# Altium schematic symbol library Tu dien.SchLib: 230 symbols
Pins are listed as number, name and electrical type; pins without a type are passive.

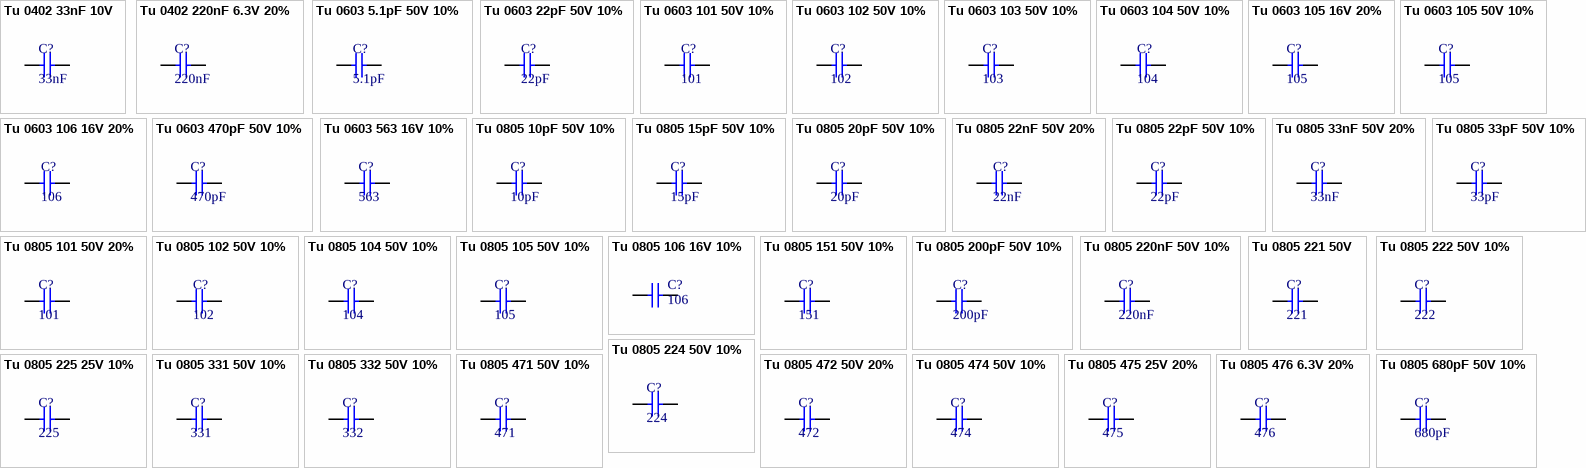
[diagram p0: symbols Tu 0402 33nF 10V to Tu 0805 680pF 50V 10%]

## Tu 0402 33nF 10V
designator C?, comment 33nF
Dán; Don_Vi: Con; So_Chan: 2; Ten_Linh_Kien: Tụ 0402 33nF X7R 10V GRM155R71A333KA01D; Ma_Hang: MH007853; Chung_Loai: Dán; Kieu_Chan: *
footprint tu 0402
pins: 1, 2

## Tu 0402 220nF 6.3V 20%
designator C?, comment 220nF
Dán; Don_Vi: Con; So_Chan: 2; Ten_Linh_Kien: Tụ 0402 220nF 6.3V 20%; Ma_Hang: MH008102; Chung_Loai: Dán; Kieu_Chan: *
footprint tu 0402
pins: 1, 2

## Tu 0603 5.1pF 50V 10%
designator C?, comment 5.1pF
Dán; Don_Vi: Con; So_Chan: 2; Ten_Linh_Kien: Tụ 0603 5.1P 50V 10%; Ma_Hang: MH004572; Chung_Loai: Dán; Kieu_Chan: *
footprint tu 0603 (Chip Capacitor, 2-Leads, Body 1,60x0,80mm, IPC Medium Density)
pins: 1, 2

## Tu 0603 22pF 50V 10%
designator C?, comment 22pF
Dán; Don_Vi: Con; So_Chan: 2; Ten_Linh_Kien: Tụ 0603 22pF 50V 10%; Ma_Hang: MH004570; Chung_Loai: Dán; Kieu_Chan: *
footprint tu 0603 (Chip Capacitor, 2-Leads, Body 1,60x0,80mm, IPC Medium Density)
pins: 1, 2

## Tu 0603 101 50V 10%
designator C?, comment 101
Dán; Don_Vi: Con; So_Chan: 2; Ten_Linh_Kien: Tụ 0603 101-0.1nF 10% 50V; Ma_Hang: MH004565; Chung_Loai: Dán; Kieu_Chan: *
footprint tu 0603 (Chip Capacitor, 2-Leads, Body 1,60x0,80mm, IPC Medium Density)
pins: 1, 2

## Tu 0603 102 50V 10%
designator C?, comment 102
Dán; Don_Vi: Con; So_Chan: 2; Ten_Linh_Kien: Tụ 0603 102-1nF 10% 50V; Ma_Hang: MH004566; Chung_Loai: Dán; Kieu_Chan: *
footprint tu 0603 (Chip Capacitor, 2-Leads, Body 1,60x0,80mm, IPC Medium Density)
pins: 1, 2

## Tu 0603 103 50V 10%
designator C?, comment 103
Dán; Don_Vi: Con; So_Chan: 2; Ten_Linh_Kien: Tụ 0603 103-10nF 10% 50V; Ma_Hang: MH004567; Chung_Loai: Dán; Kieu_Chan: *
footprint tu 0603 (Chip Capacitor, 2-Leads, Body 1,60x0,80mm, IPC Medium Density)
pins: 1, 2

## Tu 0603 104 50V 10%
designator C?, comment 104
Dán; Don_Vi: Con; So_Chan: 2; Ten_Linh_Kien: Tụ 0603 104-100nF 10% 50V; Ma_Hang: MH004568; Chung_Loai: Dán; Kieu_Chan: *
footprint tu 0603 (Chip Capacitor, 2-Leads, Body 1,60x0,80mm, IPC Medium Density)
pins: 1, 2

## Tu 0603 105 16V 20%
designator C?, comment 105
Dán; Don_Vi: Con; So_Chan: 2; Ten_Linh_Kien: Tụ 0603 105-1uF 20% 16V; Ma_Hang: MH004574; Chung_Loai: Dán; Kieu_Chan: *
footprint tu 0603 (Chip Capacitor, 2-Leads, Body 1,60x0,80mm, IPC Medium Density)
pins: 1, 2

## Tu 0603 105 50V 10%
designator C?, comment 105
Dán; Don_Vi: Con; So_Chan: 2; Ten_Linh_Kien: Tụ 0603 105-1uF 50V 10%; Ma_Hang: MH004569; Chung_Loai: Dán; Kieu_Chan: *
footprint tu 0603 (Chip Capacitor, 2-Leads, Body 1,60x0,80mm, IPC Medium Density)
pins: 1, 2

## Tu 0603 106 16V 20%
designator C?, comment 106
Dán; Don_Vi: Con; So_Chan: 2; Ten_Linh_Kien: Tụ 0603-10uF 20% 16V; Ma_Hang: MH004848; Chung_Loai: Dán; Kieu_Chan: *
footprint tu 0603 (Chip Capacitor, 2-Leads, Body 1,60x0,80mm, IPC Medium Density)
pins: 1, 2

## Tu 0603 470pF 50V 10%
designator C?, comment 470pF
Dán; Don_Vi: Con; So_Chan: 2; Ten_Linh_Kien: Tụ 0603 470P 50V 10%; Ma_Hang: MH004571; Chung_Loai: Dán; Kieu_Chan: *
footprint tu 0603 (Chip Capacitor, 2-Leads, Body 1,60x0,80mm, IPC Medium Density)
pins: 1, 2

## Tu 0603 563 16V 10%
designator C?, comment 563
Dán; Don_Vi: Con; So_Chan: 2; Ten_Linh_Kien: Tụ 0603 563-56nF 10% 16V; Ma_Hang: MH004573; Chung_Loai: Dán; Kieu_Chan: *
footprint tu 0603 (Chip Capacitor, 2-Leads, Body 1,60x0,80mm, IPC Medium Density)
pins: 1, 2

## Tu 0805 10pF 50V 10%
designator C?, comment 10pF
Dán; Don_Vi: Con; So_Chan: 2; Ten_Linh_Kien: Tụ 0805 10P 10% 50V; Ma_Hang: MH004554; Chung_Loai: Dán; Kieu_Chan: *
footprint tu 0805 (Compoment SMD 80x50mil)
pins: 1, 2

## Tu 0805 15pF 50V 10%
designator C?, comment 15pF
Dán; Don_Vi: Con; So_Chan: 2; Ten_Linh_Kien: Tụ 0805 15P 10% 50V; Ma_Hang: MH004556; Chung_Loai: Dán; Kieu_Chan: *
footprint tu 0805 (Compoment SMD 80x50mil)
pins: 1, 2

## Tu 0805 20pF 50V 10%
designator C?, comment 20pF
Dán; Don_Vi: Con; Ten_Linh_Kien: Tụ 0805 20P 10% 50V; So_Chan: 2; Ma_Hang: MH004558; Chung_Loai: Dán; Kieu_Chan: *
footprint tu 0805 (Compoment SMD 80x50mil)
pins: 1, 2

## Tu 0805 22nF 50V 20%
designator C?, comment 22nF
Dán; Don_Vi: Con; So_Chan: 2; Ten_Linh_Kien: Tụ 0805 22nF 50V 20%; Ma_Hang: MH007857; Chung_Loai: Dán; Kieu_Chan: *
footprint tu 0805 (Compoment SMD 80x50mil)
pins: 1, 2

## Tu 0805 22pF 50V 10%
designator C?, comment 22pF
Dán; Don_Vi: Con; So_Chan: 2; Ten_Linh_Kien: Tụ 0805 22P 10% 50V; Ma_Hang: MH004560; Chung_Loai: Dán; Kieu_Chan: *
footprint tu 0805 (Compoment SMD 80x50mil)
pins: 1, 2

## Tu 0805 33nF 50V 20%
designator C?, comment 33nF
Dán; Don_Vi: Con; So_Chan: 2; Ten_Linh_Kien: Tụ 0805 33nF 50V 20%; Ma_Hang: MH007854; Kieu_Chan: *; Chung_Loai: Dán
footprint tu 0805 (Compoment SMD 80x50mil)
pins: 1, 2

## Tu 0805 33pF 50V 10%
designator C?, comment 33pF
Dán; Don_Vi: Con; So_Chan: 2; Ten_Linh_Kien: Tụ 0805 33p 10% 50V; Ma_Hang: MH004563; Chung_Loai: Dán; Kieu_Chan: *
footprint tu 0805 (Compoment SMD 80x50mil)
pins: 1, 2

## Tu 0805 101 50V 20%
designator C?, comment 101
Dán; Don_Vi: Con; So_Chan: 2; Ten_Linh_Kien: Tụ 0805 101-0.1nF 50V 20%; Ma_Hang: MH002806; Chung_Loai: Dán; Kieu_Chan: *
footprint tu 0805 (Compoment SMD 80x50mil)
pins: 1, 2

## Tu 0805 102 50V 10%
designator C?, comment 102
Dán; Don_Vi: Con; So_Chan: 2; Ten_Linh_Kien: Tụ 0805 102-1nF 10% 50V; Ma_Hang: MH004549; Chung_Loai: Dán; Kieu_Chan: *
footprint tu 0805 (Compoment SMD 80x50mil)
pins: 1, 2

## Tu 0805 104 50V 10%
designator C?, comment 104
Dán; Don_Vi: Con; So_Chan: 2; Ten_Linh_Kien: Tụ 0805 104-100nF 10% 50V; Ma_Hang: MH004551; Chung_Loai: Dán; Kieu_Chan: *
footprint tu 0805 (Compoment SMD 80x50mil)
pins: 1, 2

## Tu 0805 105 50V 10%
designator C?, comment 105
Dán; Don_Vi: Con; So_Chan: 2; Ten_Linh_Kien: Tụ 0805 105-1uF 10% 50V; Ma_Hang: MH004552; Chung_Loai: Dán; Kieu_Chan: *
footprint tu 0805 (Compoment SMD 80x50mil)
pins: 1, 2

## Tu 0805 106 16V 10%
designator C?, comment 106
Dán; Ten_Linh_Kien: Tụ 0805 106-10uF 10% 16V; So_Chan: 2; Don_Vi: Con; Ma_Hang: MH004553; Chung_Loai: Dán; Kieu_Chan: *
footprint tu 0805 (Compoment SMD 80x50mil)
pins: 1, 2

## Tu 0805 151 50V 10%
designator C?, comment 151
Dán; Don_Vi: Con; So_Chan: 2; Ten_Linh_Kien: Tụ 0805 151-150P 10% 50V; Ma_Hang: MH004555; Chung_Loai: Dán; Kieu_Chan: *
footprint tu 0805 (Compoment SMD 80x50mil)
pins: 1, 2

## Tu 0805 200pF 50V 10%
designator C?, comment 200pF
Dán; Ten_Linh_Kien: Tụ 0805 200p 10% 50V; Don_Vi: Con; So_Chan: 2; Ma_Hang: MH008100; Chung_Loai: Dán; Kieu_Chan: *
footprint Tu 0805 (Compoment SMD 80x50mil)
pins: 1, 2

## Tu 0805 220nF 50V 10%
designator C?, comment 220nF
Dán; Don_Vi: Con; So_Chan: 2; Ten_Linh_Kien: Tụ 0805 220nF 50V 10%; Ma_Hang: MH008099; Chung_Loai: Dán; Kieu_Chan: *
footprint tu 0805 (Compoment SMD 80x50mil)
pins: 1, 2

## Tu 0805 221 50V
designator C?, comment 221
Dán; Don_Vi: Con; So_Chan: 2; Ten_Linh_Kien: Tụ 0805 221-220P 50V; Ma_Hang: MH007365; Chung_Loai: Dán; Kieu_Chan: *
footprint tu 0805 (Compoment SMD 80x50mil)
pins: 1, 2

## Tu 0805 222 50V 10%
designator C?, comment 222
Dán; Don_Vi: Con; So_Chan: 2; Ten_Linh_Kien: Tụ 0805 222-2.2nF 10% 50V; Ma_Hang: MH004557; Chung_Loai: Dán; Kieu_Chan: *
footprint tu 0805 (Compoment SMD 80x50mil)
pins: 1, 2

## Tu 0805 224 50V 10%
designator C?, comment 224
Dán; Don_Vi: Con; So_Chan: 2; Ten_Linh_Kien: Tụ 0805 224-0.22uF 10% 50V; Ma_Hang: MH004559; Chung_Loai: Dán; Kieu_Chan: *
footprint tu 0805 (Compoment SMD 80x50mil)
pins: 1, 2

## Tu 0805 225 25V 10%
designator C?, comment 225
Dán; Don_Vi: Con; So_Chan: 2; Ten_Linh_Kien: Tụ 0805 225-2.2uF 25V 10%; Ma_Hang: MH007483; Chung_Loai: Dán; Kieu_Chan: *
footprint tu 0805 (Compoment SMD 80x50mil)
pins: 1, 2

## Tu 0805 331 50V 10%
designator C?, comment 331
Dán; Don_Vi: Con; So_Chan: 2; Ten_Linh_Kien: Tụ 0805 331-330P 10% 50V; Ma_Hang: MH004562; Chung_Loai: Dán; Kieu_Chan: *
footprint tu 0805 (Compoment SMD 80x50mil)
pins: 1, 2

## Tu 0805 332 50V 10%
designator C?, comment 332
Dán; Don_Vi: Con; So_Chan: 2; Ten_Linh_Kien: Tụ 0805 332-3.3nF 10% 50V; Ma_Hang: MH004561; Chung_Loai: Dán; Kieu_Chan: *
footprint tu 0805 (Compoment SMD 80x50mil)
pins: 1, 2

## Tu 0805 471 50V 10%
designator C?, comment 471
Dán; Don_Vi: Con; So_Chan: 2; Ten_Linh_Kien: Tụ 0805 471-470 10% 50V; Ma_Hang: MH004564; Chung_Loai: Dán; Kieu_Chan: *
footprint tu 0805 (Compoment SMD 80x50mil)
pins: 1, 2

## Tu 0805 472 50V 20%
designator C?, comment 472
Dán; Don_Vi: Con; So_Chan: 2; Ten_Linh_Kien: Tụ 0805 472-4.7nF 20% 50V; Ma_Hang: MH004363; Chung_Loai: Dán; Kieu_Chan: *
footprint tu 0805 (Compoment SMD 80x50mil)
pins: 1, 2

## Tu 0805 474 50V 10%
designator C?, comment 474
Dán; Don_Vi: Con; So_Chan: 2; Ten_Linh_Kien: Tụ 0805 474-470nF 50V 10%; Ma_Hang: MH006116; Chung_Loai: Dán; Kieu_Chan: *
footprint tu 0805 (Compoment SMD 80x50mil)
pins: 1, 2

## Tu 0805 475 25V 20%
designator C?, comment 475
Dán; Don_Vi: Con; So_Chan: 2; Ten_Linh_Kien: Tụ 0805 475-4.7uF 20% 25V; Ma_Hang: MH004276; Chung_Loai: Dán; Kieu_Chan: *
footprint tu 0805 (Compoment SMD 80x50mil)
pins: 1, 2

## Tu 0805 476 6.3V 20%
designator C?, comment 476
Dán; Don_Vi: Con; So_Chan: 2; Ten_Linh_Kien: Tụ 0805 476-47uF 20% 6.3V; Ma_Hang: MH004277; Chung_Loai: Dán; Kieu_Chan: *
footprint tu 0805 (Compoment SMD 80x50mil)
pins: 1, 2

## Tu 0805 680pF 50V 10%
designator C?, comment 680pF
Dán; Don_Vi: Con; So_Chan: 2; Ten_Linh_Kien: Tụ 0805 680pF 50V 10%; Ma_Hang: MH008098; Chung_Loai: Dán; Kieu_Chan: *
footprint tu 0805 (Compoment SMD 80x50mil)
pins: 1, 2

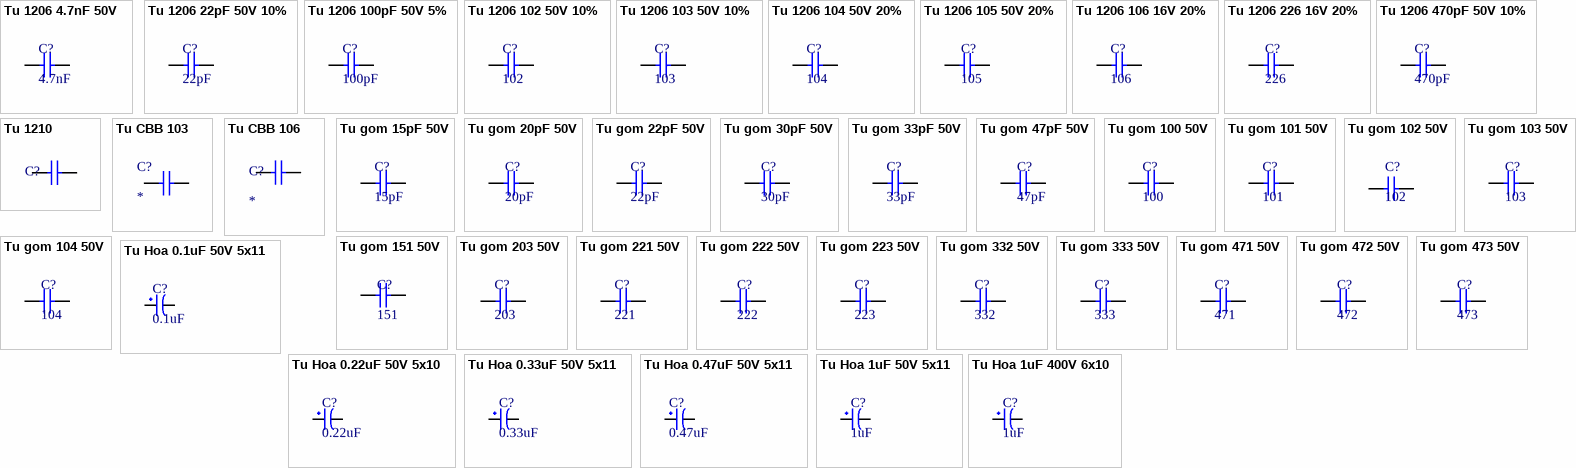
[diagram p1: symbols Tu 1206 4.7nF 50V to Tu Hoa 1uF 400V 6x10]

## Tu 1206 4.7nF 50V
designator C?, comment 4.7nF
Dán; Don_Vi: Con; So_Chan: 2; Ten_Linh_Kien: Tụ 1206 4.7nF 50V NPO; Ma_Hang: MH007538; Chung_Loai: Dán; Kieu_Chan: *
footprint tu 1206
pins: 1, 2

## Tu 1206 22pF 50V 10%
designator C?, comment 22pF
Dán; Ma_Hang: MH004547; Don_Vi: Con; So_Chan: 2; Ten_Linh_Kien: Tụ 1206 22P 10% 50V; Chung_Loai: Dán; Kieu_Chan: *
footprint tu 1206
pins: 1, 2

## Tu 1206 100pF 50V 5%
designator C?, comment 100pF
Dán; Don_Vi: Con; So_Chan: 2; Ten_Linh_Kien: Tụ 1206 100P 5% 50V; Ma_Hang: MH008101; Chung_Loai: Dán; Kieu_Chan: *
footprint tu 1206
pins: 1, 2

## Tu 1206 102 50V 10%
designator C?, comment 102
Dán; Don_Vi: Con; So_Chan: 2; Ten_Linh_Kien: Tụ 1206 102-1nF 10% 50V; Ma_Hang: MH004542; Chung_Loai: Dán; Kieu_Chan: *
footprint tu 1206
pins: 1, 2

## Tu 1206 103 50V 10%
designator C?, comment 103
Dán; Don_Vi: Con; So_Chan: 2; Ten_Linh_Kien: Tụ 1206 103-10nF 10% 50V; Ma_Hang: MH004543; Chung_Loai: Dán; Kieu_Chan: *
footprint tu 1206
pins: 1, 2

## Tu 1206 104 50V 20%
designator C?, comment 104
Dán; Don_Vi: Con; So_Chan: 2; Ten_Linh_Kien: Tụ 1206 104-0.1uF 20% 50V; Ma_Hang: MH004544; Chung_Loai: Dán; Kieu_Chan: *
footprint tu 1206
pins: 1, 2

## Tu 1206 105 50V 20%
designator C?, comment 105
Dán; Don_Vi: Con; So_Chan: 2; Ten_Linh_Kien: Tụ 1206 105-1uF 20% 50V; Ma_Hang: MH004545; Chung_Loai: Dán; Kieu_Chan: *
footprint tu 1206
pins: 1, 2

## Tu 1206 106 16V 20%
designator C?, comment 106
Dán; Don_Vi: Con; So_Chan: 2; Ten_Linh_Kien: Tụ 1206 106-10uF 20% 16V; Ma_Hang: MH004541; Chung_Loai: Dán; Kieu_Chan: *
footprint tu 1206
pins: 1, 2

## Tu 1206 226 16V 20%
designator C?, comment 226
Dán; Don_Vi: Con; So_Chan: 2; Ten_Linh_Kien: Tụ 1206 226-22uF 20% 16V; Ma_Hang: MH004546; Chung_Loai: Dán; Kieu_Chan: *
footprint tu 1206
pins: 1, 2

## Tu 1206 470pF 50V 10%
designator C?, comment 470pF
Dán; Don_Vi: Con; So_Chan: 2; Ten_Linh_Kien: Tụ 1206 470P 10% 50V; Ma_Hang: MH004548; Chung_Loai: Dán; Kieu_Chan: *
footprint tu 1206
pins: 1, 2

## Tu 1210
designator C?, comment 2.2uF  (value not drawn)
footprint TU 1210 10% 100V
pins: 1, 2

## Tu CBB 103
designator C?
pins: 1, 2

## Tu CBB 106
designator C?
footprint Tu CBB 105
pins: 1, 2

## Tu gom 15pF 50V
designator C?, comment 15pF
Cắm; Don_Vi: Con; So_Chan: 2; Ten_Linh_Kien: Tụ gốm 15P 50V; Ma_Hang: MH004767; Chung_Loai: Cắm; Kieu_Chan: *
footprint tu gom (Tu gom mini)
pins: 1, 2

## Tu gom 20pF 50V
designator C?, comment 20pF
Căm; Chung_Loai: Cắm; So_Chan: 2; Ten_Linh_Kien: Tụ gốm 20P 50V; Don_Vi: Con; Ma_Hang: MH004768; Kieu_Chan: *
footprint tu gom (Tu gom mini)
pins: 1, 2

## Tu gom 22pF 50V
designator C?, comment 22pF
Cắm; Don_Vi: Con; So_Chan: 2; Ten_Linh_Kien: Tụ gốm 22P 50V; Ma_Hang: MH004771; Chung_Loai: Cắm; Kieu_Chan: *
footprint tu gom (Tu gom mini)
pins: 1, 2

## Tu gom 30pF 50V
designator C?, comment 30pF
Cắm; Don_Vi: Con; So_Chan: 2; Ten_Linh_Kien: Tụ gốm 30P; Ma_Hang: MH004772; Chung_Loai: Cắm; Kieu_Chan: *
footprint tu gom (Tu gom mini)
pins: 1, 2

## Tu gom 33pF 50V
designator C?, comment 33pF
Cắm; Don_Vi: Con; So_Chan: 2; Ten_Linh_Kien: Tụ gốm 33P 50V; Ma_Hang: MH004775; Chung_Loai: Cắm; Kieu_Chan: *
footprint tu gom (Tu gom mini)
pins: 1, 2

## Tu gom 47pF 50V
designator C?, comment 47pF
Cắm; Don_Vi: Con; So_Chan: 2; Ten_Linh_Kien: Tụ gốm 47P 50V; Ma_Hang: MH004779; Chung_Loai: Cắm; Kieu_Chan: *
footprint tu gom (Tu gom mini)
pins: 1, 2

## Tu gom 100 50V
designator C?, comment 100
Cắm; Don_Vi: Con; So_Chan: 2; Ten_Linh_Kien: Tụ gốm 100 10pF 50V; Ma_Hang: MH004765; Chung_Loai: Cắm; Kieu_Chan: *
footprint tu gom (Tu gom mini)
pins: 1, 2

## Tu gom 101 50V
designator C?, comment 101
Cắm; Don_Vi: Con; So_Chan: 2; Ten_Linh_Kien: Tụ gốm 101 0.1nF 50V; Ma_Hang: MH004764; Chung_Loai: Cắm; Kieu_Chan: *
footprint tu gom (Tu gom mini)
pins: 1, 2

## Tu gom 102 50V
designator C?, comment 102
Cắm; Don_Vi: Con; So_Chan: 2; Ten_Linh_Kien: Tụ gốm 102 1nF 50V; Ma_Hang: MH004763; Chung_Loai: Cắm; Kieu_Chan: *
footprint tu gom (Tu gom mini)
pins: 1, 2

## Tu gom 103 50V
designator C?, comment 103
Cắm; So_Chan: 2; Ten_Linh_Kien: Tụ gốm 103 10nF 50V; Don_Vi: Con; Ma_Hang: MH000936; Chung_Loai: Cắm; Kieu_Chan: *
footprint tu gom (Tu gom mini)
pins: 1, 2

## Tu gom 104 50V
designator C?, comment 104
Cắm; So_Chan: 2; Ten_Linh_Kien: Tụ gốm 104 100nF 50V; Don_Vi: Con; Ma_Hang: MH004761; Chung_Loai: Cắm; Kieu_Chan: *
footprint tu gom (Tu gom mini)
pins: 1, 2

## Tu gom 151 50V
designator C?, comment 151
Cắm; So_Chan: 2; Don_Vi: Con; Ten_Linh_Kien: Tụ gốm 150P 151 50V; Ma_Hang: MH004766; Chung_Loai: Cắm; Kieu_Chan: *
footprint tu gom (Tu gom mini)
pins: 1, 2

## Tu gom 203 50V
designator C?, comment 203
Cắm; Don_Vi: Con; So_Chan: 2; Ten_Linh_Kien: Tụ gốm 203 -20nF 50V; Ma_Hang: MH007482; Chung_Loai: Cắm; Kieu_Chan: *
footprint tu gom (Tu gom mini)
pins: 1, 2

## Tu gom 221 50V
designator C?, comment 221
Cắm; Don_Vi: Con; So_Chan: 2; Ten_Linh_Kien: Tụ gốm 220P 221 50V; Ma_Hang: MH004769; Chung_Loai: Cắm; Kieu_Chan: *
footprint tu gom (Tu gom mini)
pins: 1, 2

## Tu gom 222 50V
designator C?, comment 222
Cắm; Don_Vi: Con; So_Chan: 2; Ten_Linh_Kien: Tụ gốm 222-2.2nF 50V; Ma_Hang: MH004770; Chung_Loai: Cắm; Kieu_Chan: *
footprint tu gom (Tu gom mini)
pins: 1, 2

## Tu gom 223 50V
designator C?, comment 223
Cắm; Don_Vi: Con; So_Chan: 2; Ten_Linh_Kien: Tụ gốm 223-22nF 50V; Ma_Hang: MH007018; Chung_Loai: Cắm; Kieu_Chan: *
footprint tu gom (Tu gom mini)
pins: 1, 2

## Tu gom 332 50V
designator C?, comment 332
Cắm; Don_Vi: Con; So_Chan: 2; Ten_Linh_Kien: Tụ gốm 332-3.3nF 50V; Ma_Hang: MH004773; Chung_Loai: Cắm; Kieu_Chan: *
footprint tu gom (Tu gom mini)
pins: 1, 2

## Tu gom 333 50V
designator C?, comment 333
Cắm; Don_Vi: Con; So_Chan: 2; Ten_Linh_Kien: Tụ gốm 333-33nF 50V; Ma_Hang: MH004774; Chung_Loai: Cắm; Kieu_Chan: *
footprint tu gom (Tu gom mini)
pins: 1, 2

## Tu gom 471 50V
designator C?, comment 471
Cắm; Don_Vi: Con; So_Chan: 2; Ten_Linh_Kien: Tụ gốm 470P 471 50V; Ma_Hang: MH004776; Chung_Loai: Cắm; Kieu_Chan: *
footprint tu gom (Tu gom mini)
pins: 1, 2

## Tu gom 472 50V
designator C?, comment 472
Cắm; Don_Vi: Con; So_Chan: 2; Ten_Linh_Kien: Tụ gốm 472-4.7nF 50V; Ma_Hang: MH004777; Chung_Loai: Cắm; Kieu_Chan: *
footprint tu gom (Tu gom mini)
pins: 1, 2

## Tu gom 473 50V
designator C?, comment 473
Cắm; Don_Vi: Con; So_Chan: 2; Ten_Linh_Kien: Tụ gốm 473-0.047uF 50V; Ma_Hang: MH004778; Chung_Loai: Cắm; Kieu_Chan: *
footprint tu gom (Tu gom mini)
pins: 1, 2

## Tu Hoa 0.1uF 50V 5x11
designator C?, comment 0.1uF
Cắm; Don_Vi: Con; So_Chan: 2; Ten_Linh_Kien: Tụ Hóa 0.1uF 50V; Ma_Hang: MH006853; Chung_Loai: Cắm; Kieu_Chan: *
footprint tu hoa 5mm
pins: 1, 2

## Tu Hoa 0.22uF 50V 5x10
designator C?, comment 0.22uF
Cắm; Don_Vi: Con; So_Chan: 2; Ten_Linh_Kien: Tụ Hóa 0.22uF 50V; Ma_Hang: MH006854; Chung_Loai: Cắm; Kieu_Chan: *
footprint tu hoa 5mm
pins: 1, 2

## Tu Hoa 0.33uF 50V 5x11
designator C?, comment 0.33uF
Cắm; Don_Vi: Con; So_Chan: 2; Ten_Linh_Kien: Tụ Hóa 0.33uF 50V 5x11MM; Ma_Hang: MH004655; Chung_Loai: Cắm; Kieu_Chan: *
footprint tu hoa 5mm
pins: 1, 2

## Tu Hoa 0.47uF 50V 5x11
designator C?, comment 0.47uF
Cắm; Don_Vi: Con; So_Chan: 2; Ten_Linh_Kien: Tụ Hóa 0.47uF50V 5x11MM; Ma_Hang: MH006969; Chung_Loai: Cắm; Kieu_Chan: *
footprint tu hoa 5mm
pins: 1, 2

## Tu Hoa 1uF 50V 5x11
designator C?, comment 1uF
Cắm; Don_Vi: Con; So_Chan: 2; Ten_Linh_Kien: Tụ Hóa 1uF 50V 5x11MM; Ma_Hang: MH001355; Chung_Loai: Cắm; Kieu_Chan: *
footprint tu hoa 5mm
pins: 1, 2

## Tu Hoa 1uF 400V 6x10
designator C?, comment 1uF
Cắm; Don_Vi: Con; So_Chan: 2; Ten_Linh_Kien: Tụ Hóa 1uF 400V 6x10MM; Ma_Hang: MH003742; Chung_Loai: Cắm; Kieu_Chan: *
footprint tu hoa 5mm
pins: 1, 2

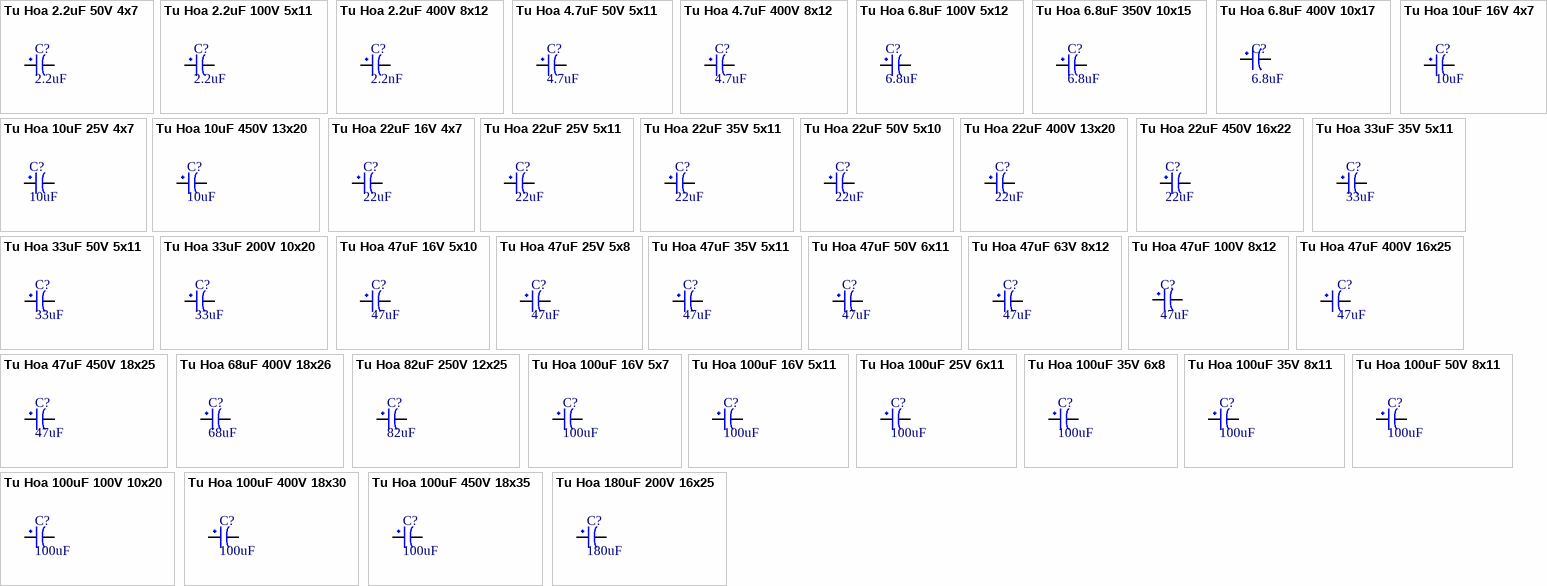
[diagram p2: symbols Tu Hoa 2.2uF 50V 4x7 to Tu Hoa 180uF 200V 16x25]

## Tu Hoa 2.2uF 50V 4x7
designator C?, comment 2.2uF
Cắm; Ten_Linh_Kien: Tụ Hóa 2.2uF 50V 4x7MM; Don_Vi: Con; So_Chan: 2; Ma_Hang: MH001356; Chung_Loai: Cắm; Kieu_Chan: *
footprint tu hoa 4mm
pins: 1, 2

## Tu Hoa 2.2uF 100V 5x11
designator C?, comment 2.2uF
Cắm; Don_Vi: Con; So_Chan: 2; Ten_Linh_Kien: Tụ Hóa 2.2uF 100V; Ma_Hang: MH005081; Chung_Loai: Cắm; Kieu_Chan: *
footprint tu hoa 5mm
pins: 1, 2

## Tu Hoa 2.2uF 400V 8x12
designator C?, comment 2.2nF
Cắm; Don_Vi: Con; So_Chan: 2; Ten_Linh_Kien: Tụ Hóa 2.2uF 400V 8x12MM; Ma_Hang: MH003743; Chung_Loai: Cắm; Kieu_Chan: *
footprint tu hoa 8mm
pins: 1, 2

## Tu Hoa 4.7uF 50V 5x11
designator C?, comment 4.7uF
Cắm; Don_Vi: Con; So_Chan: 2; Ten_Linh_Kien: Tụ Hóa 4.7uF 50V 5x11MM; Ma_Hang: MH001357; Chung_Loai: Cắm; Kieu_Chan: *
footprint tu hoa 5mm
pins: 1, 2

## Tu Hoa 4.7uF 400V 8x12
designator C?, comment 4.7uF
Cắm; Don_Vi: Con; So_Chan: 2; Ten_Linh_Kien: Tụ Hóa 4.7uF 400V 8x12MM; Ma_Hang: MH003744; Chung_Loai: Cắm; Kieu_Chan: *
footprint tu hoa 8mm
pins: 1, 2

## Tu Hoa 6.8uF 100V 5x12
designator C?, comment 6.8uF
Cắm; Don_Vi: Con; So_Chan: 2; Ten_Linh_Kien: Tụ Hóa 6.8uF 100V 5x12MM; Ma_Hang: MH006564; Chung_Loai: Cắm; Kieu_Chan: *
footprint tu hoa 5mm
pins: 1, 2

## Tu Hoa 6.8uF 350V 10x15
designator C?, comment 6.8uF
Cắm; So_Chan: 2; Don_Vi: Con; Ten_Linh_Kien: Tụ Hóa 6.8uF 350V 10x15MM; Ma_Hang: MH004800; Chung_Loai: Cắm; Kieu_Chan: *
footprint tu hoa 10mm
pins: 1, 2

## Tu Hoa 6.8uF 400V 10x17
designator C?, comment 6.8uF
Cắm; Don_Vi: Con; So_Chan: 2; Ten_Linh_Kien: Tụ Hóa 6.8uF 400V 10x17MM; Ma_Hang: MH003745; Chung_Loai: Cắm; Kieu_Chan: *
footprint tu hoa 10mm
pins: 1, 2

## Tu Hoa 10uF 16V 4x7
designator C?, comment 10uF
Cắm; So_Chan: 2; Don_Vi: Con; Ten_Linh_Kien: Tụ Hóa 10uF 16V; Ma_Hang: MH006855; Chung_Loai: Cắm; Kieu_Chan: *
footprint tu hoa 4mm
pins: 1, 2

## Tu Hoa 10uF 25V 4x7
designator C?, comment 10uF
Cắm; So_Chan: 2; Ten_Linh_Kien: Tụ Hóa 10uF 25V 4x7MM; Don_Vi: Con; Ma_Hang: MH001349; Chung_Loai: Cắm; Kieu_Chan: *
footprint tu hoa 4mm
pins: 1, 2

## Tu Hoa 10uF 450V 13x20
designator C?, comment 10uF
Cắm; Don_Vi: Con; So_Chan: 2; Ten_Linh_Kien: Tụ Hóa 10uF 450V 13x20MM; Ma_Hang: MH003950; Chung_Loai: Cắm; Kieu_Chan: *
footprint tu hoa 13mm
pins: 1, 2

## Tu Hoa 22uF 16V 4x7
designator C?, comment 22uF
Cắm; Don_Vi: Con; So_Chan: 2; Ten_Linh_Kien: Tụ Hóa 22uF 16V; Ma_Hang: MH006857; Chung_Loai: Cắm; Kieu_Chan: *
footprint tu hoa 4mm
pins: 1, 2

## Tu Hoa 22uF 25V 5x11
designator C?, comment 22uF
Cắm; So_Chan: 2; Don_Vi: Con; Ten_Linh_Kien: Tụ Hóa 22uF 25V; Ma_Hang: MH006858; Chung_Loai: Cắm; Kieu_Chan: *
footprint tu hoa 5mm
pins: 1, 2

## Tu Hoa 22uF 35V 5x11
designator C?, comment 22uF
Cắm; Don_Vi: Con; So_Chan: 2; Ten_Linh_Kien: Tụ Hóa 22uF 35V 5x11MM; Ma_Hang: MH001350; Chung_Loai: Cắm; Kieu_Chan: *
footprint tu hoa 5mm
pins: 1, 2

## Tu Hoa 22uF 50V 5x10
designator C?, comment 22uF
Cắm; Don_Vi: Con; So_Chan: 2; Ten_Linh_Kien: Tụ Hóa 22uF 50V; Ma_Hang: MH001359; Chung_Loai: Cắm; Kieu_Chan: *
footprint tu hoa 5mm
pins: 1, 2

## Tu Hoa 22uF 400V 13x20
designator C?, comment 22uF
Cắm; Don_Vi: Con; So_Chan: 2; Ten_Linh_Kien: Tụ Hóa 22uF 400V 13x20MM; Ma_Hang: MH004801; Chung_Loai: Cắm; Kieu_Chan: *
footprint tu hoa 13mm
pins: 1, 2

## Tu Hoa 22uF 450V 16x22
designator C?, comment 22uF
Cắm; Don_Vi: Con; So_Chan: 2; Ten_Linh_Kien: Tụ Hóa 22uF 450V 16x22MM; Ma_Hang: MH003915; Kieu_Chan: *; Chung_Loai: Cắm
footprint tu hoa 16mm
pins: 1, 2

## Tu Hoa 33uF 35V 5x11
designator C?, comment 33uF
Cắm; Don_Vi: Con; So_Chan: 2; Ten_Linh_Kien: Tụ Hóa 33uF 35V; Ma_Hang: MH005647; Chung_Loai: Cắm; Kieu_Chan: *
footprint tu hoa 5mm
pins: 1, 2

## Tu Hoa 33uF 50V 5x11
designator C?, comment 33uF
Cắm; Don_Vi: Con; So_Chan: 2; Ten_Linh_Kien: Tụ Hóa 33uF 50V 5x11MM; Ma_Hang: MH006543; Chung_Loai: Cắm; Kieu_Chan: *
footprint tu hoa 5mm
pins: 1, 2

## Tu Hoa 33uF 200V 10x20
designator C?, comment 33uF
Cắm; Don_Vi: Con; So_Chan: 2; Ten_Linh_Kien: Tụ Hóa 33uF 200V 10x20MM; Ma_Hang: MH006539; Chung_Loai: Cắm; Kieu_Chan: *
footprint tu hoa 10mm
pins: 1, 2

## Tu Hoa 47uF 16V 5x10
designator C?, comment 47uF
Cắm; Don_Vi: Con; So_Chan: 2; Ten_Linh_Kien: Tụ Hóa 47uF 16V; Ma_Hang: MH006859; Chung_Loai: Cắm; Kieu_Chan: *
footprint tu hoa 5mm
pins: 1, 2

## Tu Hoa 47uF 25V 5x8
designator C?, comment 47uF
Cắm; Don_Vi: Con; So_Chan: 2; Ten_Linh_Kien: Tụ Hóa 47uF 25V; Ma_Hang: MH006860; Chung_Loai: Cắm; Kieu_Chan: *
footprint tu hoa 5mm
pins: 1, 2

## Tu Hoa 47uF 35V 5x11
designator C?, comment 47uF
Cắm; So_Chan: 2; Don_Vi: Con; Ten_Linh_Kien: Tụ Hóa 47uF 35V 5x11MM; Ma_Hang: MH001354; Chung_Loai: Cắm; Kieu_Chan: *
footprint tu hoa 5mm
pins: 1, 2

## Tu Hoa 47uF 50V 6x11
designator C?, comment 47uF
Cắm; Don_Vi: Con; So_Chan: 2; Ten_Linh_Kien: Tụ Hóa 47uF 50V; Ma_Hang: MH001360; Chung_Loai: Cắm; Kieu_Chan: *
footprint tu hoa 6.5mm
pins: 1, 2

## Tu Hoa 47uF 63V 8x12
designator C?, comment 47uF
Cắm; Don_Vi: Con; So_Chan: 2; Ten_Linh_Kien: Tụ Hóa 47uF 63V 8x12MM; Ma_Hang: MH007510; Chung_Loai: Cắm; Kieu_Chan: *
footprint tu hoa 8mm
pins: 1, 2

## Tu Hoa 47uF 100V 8x12
designator C?, comment 47uF
Cắm; Don_Vi: Con; So_Chan: 2; Ten_Linh_Kien: Tụ Hóa 47uF 100V; Ma_Hang: MH006861; Chung_Loai: Cắm; Kieu_Chan: *
footprint tu hoa 8mm
pins: 1, 2

## Tu Hoa 47uF 400V 16x25
designator C?, comment 47uF
Cắm; So_Chan: 2; Ten_Linh_Kien: Tụ Hóa 47uF 400V 16x25MM; Ma_Hang: MH003746; Don_Vi: Con; Chung_Loai: Cắm; Kieu_Chan: *
footprint tu hoa 16mm
pins: 1, 2

## Tu Hoa 47uF 450V 18x25
designator C?, comment 47uF
Cắm; Don_Vi: Con; So_Chan: 2; Ten_Linh_Kien: Tụ Hóa 47uF 450V 18x25MM; Ma_Hang: MH003952; Chung_Loai: Cắm; Kieu_Chan: *
footprint tu hoa 18mm
pins: 1, 2

## Tu Hoa 68uF 400V 18x26
designator C?, comment 68uF
Cắm; Don_Vi: Con; So_Chan: 2; Ma_Hang: MH007269; Ten_Linh_Kien: Tụ Hóa 68uF 400V; Chung_Loai: Cắm; Kieu_Chan: *
footprint tu hoa 18mm
pins: 1, 2

## Tu Hoa 82uF 250V 12x25
designator C?, comment 82uF
Cắm; Don_Vi: Con; So_Chan: 2; Ten_Linh_Kien: Tụ Hóa 82uF 250V 12x25MM; Ma_Hang: MH004656; Chung_Loai: Cắm; Kieu_Chan: *
footprint tu hoa 12mm
pins: 1, 2

## Tu Hoa 100uF 16V 5x7
designator C?, comment 100uF
Cắm; Don_Vi: Con; So_Chan: 2; Ten_Linh_Kien: Tụ Hóa 100uF 16V 5x7MM; Ma_Hang: MH001347; Chung_Loai: Cắm; Kieu_Chan: *
footprint tu hoa 5mm
pins: 1, 2

## Tu Hoa 100uF 16V 5x11
designator C?, comment 100uF
Cắm; Don_Vi: Con; So_Chan: 2; Ten_Linh_Kien: Tụ Hóa 100uF 16V 5x11MM; Ma_Hang: MH008417; Chung_Loai: Cắm; Kieu_Chan: *
footprint tu hoa 5mm
pins: 1, 2

## Tu Hoa 100uF 25V 6x11
designator C?, comment 100uF
Cắm; Don_Vi: Con; So_Chan: 2; Ten_Linh_Kien: Tụ Hóa 100uF 25V 6x11MM; Ma_Hang: MH001351; Chung_Loai: Cắm; Kieu_Chan: *
footprint tu hoa 5mm
pins: 1, 2

## Tu Hoa 100uF 35V 6x8
designator C?, comment 100uF
Cắm; Don_Vi: Con; So_Chan: 2; Ten_Linh_Kien: Tụ Hóa 100uF 35V; Ma_Hang: MH006862; Chung_Loai: Cắm; Kieu_Chan: *
footprint tu hoa 6.5mm
pins: 1, 2

## Tu Hoa 100uF 35V 8x11
designator C?, comment 100uF
Cắm; Don_Vi: Con; So_Chan: 2; Ten_Linh_Kien: Tụ Hóa 100uF 35V 8x11MM; Ma_Hang: MH002807; Chung_Loai: Cắm; Kieu_Chan: *
footprint tu hoa 8mm
pins: 1, 2

## Tu Hoa 100uF 50V 8x11
designator C?, comment 100uF
Cắm; Don_Vi: Con; So_Chan: 2; Ten_Linh_Kien: Tụ Hóa 100uF 50V 8x11MM; Ma_Hang: MH006872; Chung_Loai: Cắm; Kieu_Chan: *
footprint tu hoa 8mm
pins: 1, 2

## Tu Hoa 100uF 100V 10x20
designator C?, comment 100uF
Cắm; Don_Vi: Con; So_Chan: 2; Ten_Linh_Kien: Tụ Hóa 100uF 100V 10x20MM; Ma_Hang: MH003150; Chung_Loai: Cắm; Kieu_Chan: *
footprint Tu hoa 10mm
pins: 1, 2

## Tu Hoa 100uF 400V 18x30
designator C?, comment 100uF
Cắm; Don_Vi: Con; So_Chan: 2; Ten_Linh_Kien: Tụ Hóa 100uF 400V 18x30MM; Ma_Hang: MH001997; Chung_Loai: Cắm; Kieu_Chan: *
footprint tu hoa 18mm
pins: 1, 2

## Tu Hoa 100uF 450V 18x35
designator C?, comment 100uF
Cắm; Don_Vi: Con; So_Chan: 2; Ten_Linh_Kien: Tụ Hóa 100uF 450V 18x35MM; Ma_Hang: MH003953; Chung_Loai: Cắm; Kieu_Chan: *
footprint tu Hoa 18mm
pins: 1, 2

## Tu Hoa 180uF 200V 16x25
designator C?, comment 180uF
Cắm; Don_Vi: Con; So_Chan: 2; Ten_Linh_Kien: Tụ Hóa 180uF 200V 16x25MM; Ma_Hang: MH008299; Kieu_Chan: *; Chung_Loai: Cắm
footprint tu hoa 16mm
pins: 1, 2

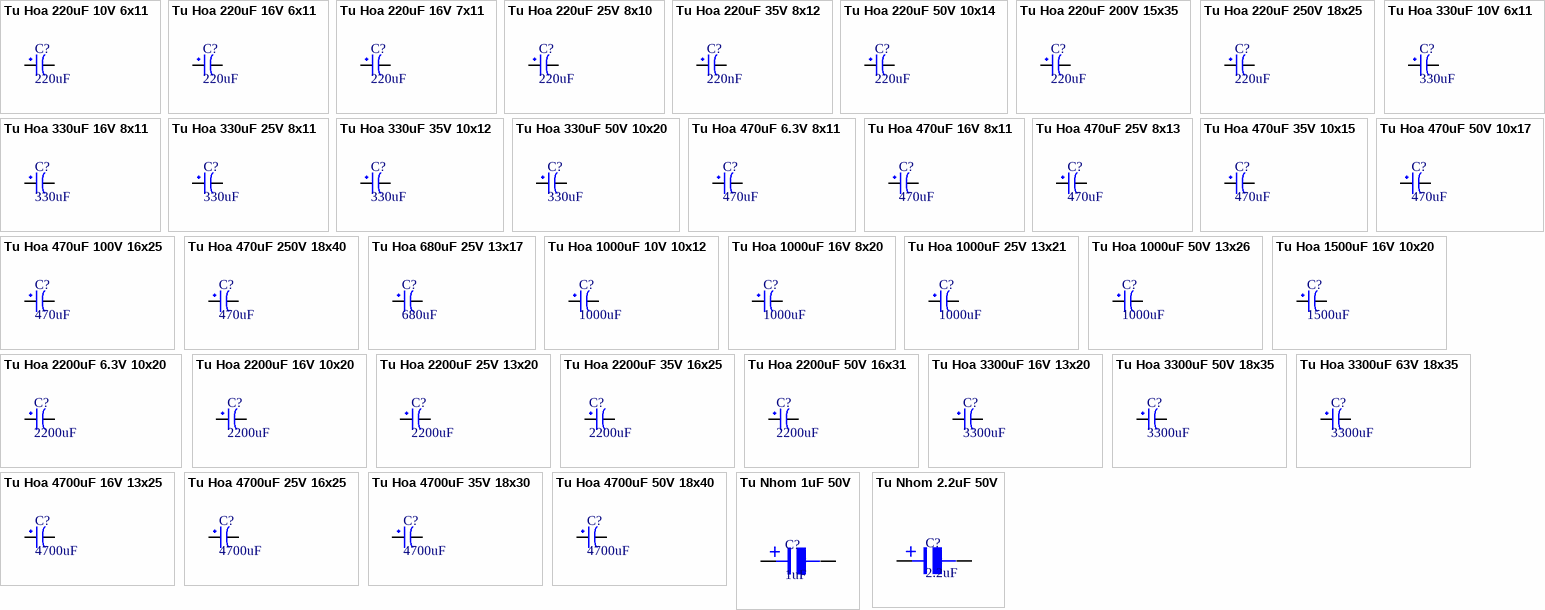
[diagram p3: symbols Tu Hoa 220uF 10V 6x11 to Tu Nhom 2.2uF 50V]

## Tu Hoa 220uF 10V 6x11
designator C?, comment 220uF
Cắm; Don_Vi: Con; So_Chan: 2; Ten_Linh_Kien: Tụ Hóa 220uF 10V 6x11MM; Ma_Hang: MH004510; Chung_Loai: Cắm; Kieu_Chan: *
footprint tu hoa 5mm
pins: 1, 2

## Tu Hoa 220uF 16V 6x11
designator C?, comment 220uF
Cắm; Don_Vi: Con; So_Chan: 2; Ten_Linh_Kien: Tụ Hóa 220uF 16V 6x11MM; Ma_Hang: MH001348; Chung_Loai: Cắm; Kieu_Chan: *
footprint Tu hoa 5mm
pins: 1, 2

## Tu Hoa 220uF 16V 7x11
designator C?, comment 220uF
Cắm; Don_Vi: Con; Ten_Linh_Kien: Tụ Hóa 220uF 16V 7x11MM; So_Chan: 2; Ma_Hang: MH008416; Chung_Loai: Cắm; Kieu_Chan: *
footprint tu hoa 6.5mm
pins: 1, 2

## Tu Hoa 220uF 25V 8x10
designator C?, comment 220uF
Cắm; Don_Vi: Con; So_Chan: 2; Ten_Linh_Kien: Tụ Hóa 220uF 25V 8x10MM; Ma_Hang: MH006864; Chung_Loai: Cắm; Kieu_Chan: *
footprint Tu hoa 8mm
pins: 1, 2

## Tu Hoa 220uF 35V 8x12
designator C?, comment 220nF
Cắm; Don_Vi: Con; So_Chan: 2; Ten_Linh_Kien: Tụ Hóa 220uF 35V 8x12MM; Ma_Hang: MH006553; Chung_Loai: Cắm; Kieu_Chan: *
footprint tu hoa 8mm
pins: 1, 2

## Tu Hoa 220uF 50V 10x14
designator C?, comment 220uF
Cắm; Don_Vi: Con; So_Chan: 2; Ten_Linh_Kien: Tụ Hóa 220uF 50V; Ma_Hang: MH006873; Chung_Loai: Cắm; Kieu_Chan: *
footprint tu hoa 10mm
pins: 1, 2

## Tu Hoa 220uF 200V 15x35
designator C?, comment 220uF
Cắm; So_Chan: 2; Don_Vi: Con; Ten_Linh_Kien: Tụ Hóa 220uF 200V 15x35MM; Ma_Hang: MH004819; Chung_Loai: Cắm; Kieu_Chan: *
footprint tu hoa 16mm
pins: 1, 2

## Tu Hoa 220uF 250V 18x25
designator C?, comment 220uF
Cắm; Don_Vi: Con; So_Chan: 2; Ten_Linh_Kien: Tụ Hóa 220uF 250V 18x25MM; Ma_Hang: MH005842; Chung_Loai: Cắm; Kieu_Chan: *
footprint tu hoa 18mm
pins: 1, 2

## Tu Hoa 330uF 10V 6x11
designator C?, comment 330uF
Cắm; Don_Vi: Con; So_Chan: 2; Ten_Linh_Kien: Tụ Hóa 330uF 10V 6x11MM; Ma_Hang: MH008830; Chung_Loai: Cắm; Kieu_Chan: *
footprint tu hoa 5mm
pins: 1, 2

## Tu Hoa 330uF 16V 8x11
designator C?, comment 330uF
Cắm; Don_Vi: Con; So_Chan: 2; Ten_Linh_Kien: Tụ Hóa 330uF 16V 8x11MM; Ma_Hang: MH006625; Chung_Loai: Cắm; Kieu_Chan: *
footprint tu hoa 8mm
pins: 1, 2

## Tu Hoa 330uF 25V 8x11
designator C?, comment 330uF
Cắm; Don_Vi: Con; So_Chan: 2; Ten_Linh_Kien: Tụ Hóa 330nF 25V 8x11MM; Ma_Hang: MH006566; Chung_Loai: Cắm; Kieu_Chan: *
footprint tu hoa 8mm
pins: 1, 2

## Tu Hoa 330uF 35V 10x12
designator C?, comment 330uF
Cắm; So_Chan: 2; Don_Vi: Con; Ten_Linh_Kien: Tụ Hóa 330uF 35V 10x12MM; Ma_Hang: MH004802; Chung_Loai: Cắm; Kieu_Chan: *
footprint tu hoa 10mm
pins: 1, 2

## Tu Hoa 330uF 50V 10x20
designator C?, comment 330uF
Cắm; Don_Vi: Con; So_Chan: 2; Ten_Linh_Kien: Tụ Hóa 330uF 50V 10x20MM; Ma_Hang: MH006551; Chung_Loai: Cắm; Kieu_Chan: *
footprint tu hoa 10mm
pins: 1, 2

## Tu Hoa 470uF 6.3V 8x11
designator C?, comment 470uF
Cắm; Don_Vi: Con; So_Chan: 2; Ten_Linh_Kien: Tụ Hóa 470uF 6.3V 8x11MM; Ma_Hang: MH004511; Chung_Loai: Cắm; Kieu_Chan: *
footprint tu hoa 8mm
pins: 1, 2

## Tu Hoa 470uF 16V 8x11
designator C?, comment 470uF
Cắm; Don_Vi: Con; So_Chan: 2; Ten_Linh_Kien: Tụ Hóa 470uF 16V 8x11MM; Ma_Hang: MH006550; Chung_Loai: Cắm; Kieu_Chan: *
footprint tu hoa 8mm
pins: 1, 2

## Tu Hoa 470uF 25V 8x13
designator C?, comment 470uF
Cắm; Don_Vi: Con; So_Chan: 2; Ten_Linh_Kien: Tụ Hóa 470uF 25V; Ma_Hang: MH 470uF 25V; Chung_Loai: Cắm; Kieu_Chan: *
footprint tu hoa 8mm
pins: 1, 2

## Tu Hoa 470uF 35V 10x15
designator C?, comment 470uF
Cắm; Don_Vi: Con; So_Chan: 2; Ten_Linh_Kien: Tụ Hóa 470uF 35V 10x15MM; Ma_Hang: MH002204; Chung_Loai: Cắm; Kieu_Chan: *
footprint tu hoa 10mm
pins: 1, 2

## Tu Hoa 470uF 50V 10x17
designator C?, comment 470uF
Cắm; Don_Vi: Con; So_Chan: 2; Ten_Linh_Kien: Tụ Hóa 470uF 50V; Ma_Hang: MH006866; Chung_Loai: Cắm; Kieu_Chan: *
footprint tu hoa 10mm
pins: 1, 2

## Tu Hoa 470uF 100V 16x25
designator C?, comment 470uF
Cắm; Don_Vi: Con; So_Chan: 2; Ten_Linh_Kien: Tụ Hóa 470uF 100V 16x25MM; Ma_Hang: MH008785; Chung_Loai: Cắm; Kieu_Chan: *
footprint tu hoa 16mm
pins: 1, 2

## Tu Hoa 470uF 250V 18x40
designator C?, comment 470uF
Cắm; Don_Vi: Con; So_Chan: 2; Ten_Linh_Kien: Tụ Hóa 470uF 250V 18x40MM; Ma_Hang: MH008118; Chung_Loai: Cắm; Kieu_Chan: *
footprint tu hoa 18mm
pins: 1, 2

## Tu Hoa 680uF 25V 13x17
designator C?, comment 680uF
Cắm; Don_Vi: Con; So_Chan: 2; Ten_Linh_Kien: Tụ Hóa 680uF 25V; Ma_Hang: MH005082; Chung_Loai: Cắm; Kieu_Chan: *
footprint tu hoa 13mm
pins: 1, 2

## Tu Hoa 1000uF 10V 10x12
designator C?, comment 1000uF
Cắm; So_Chan: 2; Don_Vi: Con; Ten_Linh_Kien: Tụ Hóa 1000uF 10V 10x12MM; Ma_Hang: MH006614; Kieu_Chan: *; Chung_Loai: Cắm
footprint tu hoa 10mm
pins: 1, 2

## Tu Hoa 1000uF 16V 8x20
designator C?, comment 1000uF
Cắm; Don_Vi: Con; So_Chan: 2; Ten_Linh_Kien: Tụ Hóa 1000uF 16V 8x20MM; Ma_Hang: MH008300; Chung_Loai: Cắm; Kieu_Chan: *
footprint tu hoa 8mm
pins: 1, 2

## Tu Hoa 1000uF 25V 13x21
designator C?, comment 1000uF
Cắm; Don_Vi: Con; So_Chan: 2; Ten_Linh_Kien: Tụ Hóa 1000uF 25V 13x21MM; Ma_Hang: MH002315; Chung_Loai: Cắm; Kieu_Chan: *
footprint tu hoa 13mm
pins: 1, 2

## Tu Hoa 1000uF 50V 13x26
designator C?, comment 1000uF
Cắm; Don_Vi: Con; So_Chan: 2; Ten_Linh_Kien: Tụ Hóa 1000uF 50V; Ma_Hang: MH006619; Chung_Loai: Cắm; Kieu_Chan: *
footprint tu hoa 13mm
pins: 1, 2

## Tu Hoa 1500uF 16V 10x20
designator C?, comment 1500uF
Cắm; Don_Vi: Con; So_Chan: 2; Ten_Linh_Kien: Tụ Hóa 1500uF 16V 10x20MM; Ma_Hang: MH006603; Chung_Loai: Cắm; Kieu_Chan: *
footprint tu hoa 10mm
pins: 1, 2

## Tu Hoa 2200uF 6.3V 10x20
designator C?, comment 2200uF
Cắm; Don_Vi: Con; So_Chan: 2; Ten_Linh_Kien: Tụ Hóa 2200uF 6.3V; Ma_Hang: MH004502; Chung_Loai: Cắm; Kieu_Chan: *
footprint tu hoa 10mm
pins: 1, 2

## Tu Hoa 2200uF 16V 10x20
designator C?, comment 2200uF
Cắm; Don_Vi: Con; So_Chan: 2; Ten_Linh_Kien: Tụ Hóa 2200uF 16V 10x20MM; Ma_Hang: MH002316; Chung_Loai: Cắm; Kieu_Chan: *
footprint tu hoa 10mm
pins: 1, 2

## Tu Hoa 2200uF 25V 13x20
designator C?, comment 2200uF
Cắm; So_Chan: 2; Don_Vi: Con; Ten_Linh_Kien: Tụ Hóa 2200uF 25V 13x20MM; Ma_Hang: MH002203; Chung_Loai: Cắm; Kieu_Chan: *
footprint tu hoa 13mm
pins: 1, 2

## Tu Hoa 2200uF 35V 16x25
designator C?, comment 2200uF
Cắm; Don_Vi: Con; So_Chan: 2; Ten_Linh_Kien: Tụ Hóa 2200uF 35V 16x25MM; Ma_Hang: MH004420; Chung_Loai: Cắm; Kieu_Chan: *
footprint tu hoa 16mm
pins: 1, 2

## Tu Hoa 2200uF 50V 16x31
designator C?, comment 2200uF
Cắm; Don_Vi: Con; So_Chan: 2; Ten_Linh_Kien: Tụ Hóa 2200uF 50V; Ma_Hang: MH006875; Chung_Loai: Cắm; Kieu_Chan: *
footprint tu hoa 16mm
pins: 1, 2

## Tu Hoa 3300uF 16V 13x20
designator C?, comment 3300uF
Cắm; Don_Vi: Con; So_Chan: 2; Ten_Linh_Kien: Tụ Hóa 3300uF 16V 13x20MM; Ma_Hang: MH004421; Chung_Loai: Cắm; Kieu_Chan: *
footprint tu hoa 13mm
pins: 1, 2

## Tu Hoa 3300uF 50V 18x35
designator C?, comment 3300uF
Cắm; Don_Vi: Con; So_Chan: 2; Ten_Linh_Kien: Tụ Hóa 3300uF 50V 18x35MM; Ma_Hang: MH004423; Chung_Loai: Cắm; Kieu_Chan: *
footprint tu hoa 18mm
pins: 1, 2

## Tu Hoa 3300uF 63V 18x35
designator C?, comment 3300uF
Cắm; Don_Vi: Con; So_Chan: 2; Ten_Linh_Kien: Tụ Hóa 3300uF 63V 18x35MM; Ma_Hang: MH004424; Chung_Loai: Cắm; Kieu_Chan: *
footprint tu hoa 18mm
pins: 1, 2

## Tu Hoa 4700uF 16V 13x25
designator C?, comment 4700uF
Cắm; Don_Vi: Con; Ma_Hang: MH004425; Ten_Linh_Kien: Tụ Hóa 4700uF 16V 13x25MM; So_Chan: 2; Chung_Loai: Cắm; Kieu_Chan: *
footprint tu hoa 13mm
pins: 1, 2

## Tu Hoa 4700uF 25V 16x25
designator C?, comment 4700uF
Cắm; Don_Vi: Con; So_Chan: 2; Ten_Linh_Kien: Tụ Hóa 4700uF 25V 16x25MM; Ma_Hang: MH004426; Chung_Loai: Cắm; Kieu_Chan: *
footprint tu hoa 16mm
pins: 1, 2

## Tu Hoa 4700uF 35V 18x30
designator C?, comment 4700uF
Cắm; So_Chan: 2; Don_Vi: Con; Ten_Linh_Kien: Tụ Hóa 4700uF 35V 18x30MM; Ma_Hang: MH004427; Chung_Loai: Cắm; Kieu_Chan: *
footprint tu hoa 18mm
pins: 1, 2

## Tu Hoa 4700uF 50V 18x40
designator C?, comment 4700uF
Cắm; Don_Vi: Con; So_Chan: 2; Ten_Linh_Kien: Tụ Hóa 4700uF 50V 18x40MM; Ma_Hang: MH004429; Chung_Loai: Cắm; Kieu_Chan: *
footprint tu hoa 18mm
pins: 1, 2

## Tu Nhom 1uF 50V
designator C?, comment 1uF
Dán; Don_Vi: Con; So_Chan: 2; Ten_Linh_Kien: Tụ Nhôm 1uF 50V 4x5.4MM; Ma_Hang: MH007467; Chung_Loai: Dán; Kieu_Chan: *
footprint tu nhom 4 (B)
pins: 1, 2
text: +

## Tu Nhom 2.2uF 50V
designator C?, comment 2.2uF
Dán; Don_Vi: Con; So_Chan: 2; Ten_Linh_Kien: Tụ Nhôm 2.2uF 50V; Ma_Hang: MH004015; Chung_Loai: Dán; Kieu_Chan: *
footprint tu nhom 4 (b)
pins: 1, 2
text: +

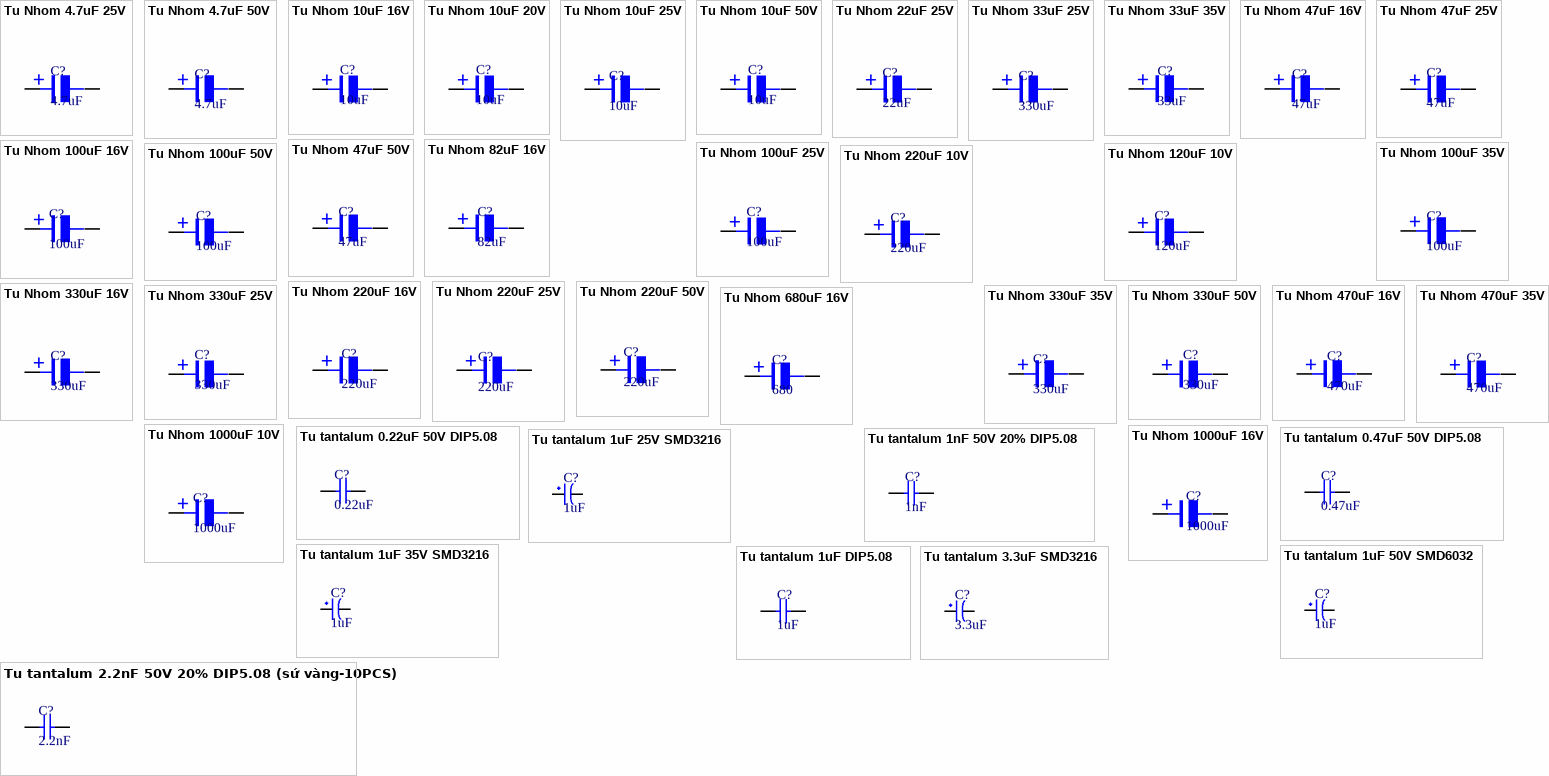
[diagram p4: symbols Tu Nhom 4.7uF 25V to Tu tantalum 3.3uF SMD3216]

## Tu Nhom 4.7uF 25V
designator C?, comment 4.7uF
Dán; Don_Vi: Con; So_Chan: 2; Ten_Linh_Kien: Tụ Nhôm 4.7uF 25V 4x4.5MM; Ma_Hang: MH003790; Chung_Loai: Dán; Kieu_Chan: *
footprint tu nhom 4 (b)
pins: 1, 2
text: +

## Tu Nhom 4.7uF 50V
designator C?, comment 4.7uF
Dán; So_Chan: 2; Don_Vi: Con; Ten_Linh_Kien: Tụ Nhôm 4.7uF 50V; Ma_Hang: MH007978; Chung_Loai: Dán; Kieu_Chan: *
footprint tu nhom 5 (C)
pins: 1, 2
text: +

## Tu Nhom 10uF 16V
designator C?, comment 10uF
Dán; Don_Vi: Con; So_Chan: 2; Ten_Linh_Kien: Tụ Nhôm 10uF 16V 4x5MM; Ma_Hang: MH001458; Chung_Loai: Dán; Kieu_Chan: *
footprint tu nhom 4 (b)
pins: 1, 2
text: +

## Tu Nhom 10uF 20V
designator C?, comment 10uF
Dán; Don_Vi: Con; So_Chan: 2; Ten_Linh_Kien: Tụ Nhôm 10uF 20V; Ma_Hang: MH004016; Chung_Loai: Dán; Kieu_Chan: *
footprint tu nhom 5 (c)
pins: 1, 2
text: +

## Tu Nhom 10uF 25V
designator C?, comment 10uF
Dán; Don_Vi: Con; So_Chan: 2; Ten_Linh_Kien: Tụ Nhôm 10uF 25V 4x5MM; Ma_Hang: MH002230; Chung_Loai: Dán; Kieu_Chan: *
footprint tu nhom 4 (b)
pins: 1, 2
text: +

## Tu Nhom 10uF 50V
designator C?, comment 10uF
Dán; Don_Vi: Con; So_Chan: 2; Ten_Linh_Kien: Tụ Nhôm 10uF 50V 5x5MM; Ma_Hang: MH002229; Chung_Loai: Dán; Kieu_Chan: *
footprint tu nhom 5 (c)
pins: 1, 2
text: +

## Tu Nhom 22uF 25V
designator C?, comment 22uF
Dán; Don_Vi: Con; So_Chan: 2; Ten_Linh_Kien: Tụ Nhôm 22uF 25V; Ma_Hang: MH007613; Chung_Loai: Dán; Kieu_Chan: *
footprint tu nhom 6.3 (D)
pins: 1, 2
text: +

## Tu Nhom 33uF 25V
designator C?, comment 330uF
Dán; Don_Vi: Con; So_Chan: 2; Ten_Linh_Kien: Tụ Nhôm 33uF 25V; Ma_Hang: MH004038; Chung_Loai: Dán; Kieu_Chan: *
footprint tu nhom 6.3 (d)
pins: 1, 2
text: +

## Tu Nhom 33uF 35V
designator C?, comment 33uF
Dán; Don_Vi: Con; So_Chan: 2; Ten_Linh_Kien: Tụ Nhôm 33uF 35V; Ma_Hang: MH004017; Chung_Loai: Dán; Kieu_Chan: *
footprint tu nhom 8 (e)
pins: 1, 2
text: +

## Tu Nhom 47uF 16V
designator C?, comment 47uF
Dán; Don_Vi: Con; So_Chan: 2; Ten_Linh_Kien: Tụ Nhôm 47uF 16V; Ma_Hang: MH007468; Chung_Loai: Dán; Kieu_Chan: *
footprint tu nhom 6.3 (D)
pins: 1, 2
text: +

## Tu Nhom 47uF 25V
designator C?, comment 47uF
Dán; Don_Vi: Con; So_Chan: 2; Ten_Linh_Kien: Tụ Nhôm 47uF 25V 6.3x5.5MM; Ma_Hang: MH002216; Chung_Loai: Dán; Kieu_Chan: *
footprint tu nhom 6.3 (d)
pins: 1, 2
text: +

## Tu Nhom 47uF 50V
designator C?, comment 47uF
Dán; Don_Vi: Con; So_Chan: 2; Ten_Linh_Kien: Tụ Nhôm 47uF 50V 6.3x5.5MM; Ma_Hang: MH002217; Chung_Loai: Dán; Kieu_Chan: *
footprint tu nhom 6.3 (d)
pins: 1, 2
text: +

## Tu Nhom 82uF 16V
designator C?, comment 82uF
Dán; Don_Vi: Con; Ten_Linh_Kien: Tụ Nhôm 82uF 16V; So_Chan: 2; Ma_Hang: MH004018; Chung_Loai: Dán; Kieu_Chan: *
footprint tu nhom 6.3 (d)
pins: 1, 2
text: +

## Tu Nhom 100uF 16V
designator C?, comment 100uF
Dán; Don_Vi: Con; So_Chan: 2; Ten_Linh_Kien: Tụ Nhôm 100uF 16V 6.3x5.4MM; Ma_Hang: MH002219; Chung_Loai: Dán; Kieu_Chan: *
footprint tu nhom 6.3 (d)
pins: 1, 2
text: +

## Tu Nhom 100uF 25V
designator C?, comment 100uF
Dán; Don_Vi: Con; So_Chan: 2; Ten_Linh_Kien: Tụ Nhôm 100uF 25V 6x7MM; Ma_Hang: MH002222; Chung_Loai: Dán; Kieu_Chan: *
footprint tu nhom 6.3 (d)
pins: 1, 2
text: +

## Tu Nhom 100uF 35V
designator C?, comment 100uF
Dán; Don_Vi: Con; Ten_Linh_Kien: Tụ Nhôm 100uF 35V; Ma_Hang: MH004019; So_Chan: 2; Chung_Loai: Dán; Kieu_Chan: *
footprint tu nhom 10 (g)
pins: 1, 2
text: +

## Tu Nhom 100uF 50V
designator C?, comment 100uF
Dán; Don_Vi: Con; So_Chan: 2; Ten_Linh_Kien: Tụ Nhôm 100uF 50V 8x10.2MM; Ma_Hang: MH002223; Chung_Loai: Dán; Kieu_Chan: *
footprint tu nhom 8 (f)
pins: 1, 2
text: +

## Tu Nhom 120uF 10V
designator C?, comment 120uF
Dán; So_Chan: 2; Don_Vi: Con; Ten_Linh_Kien: Tụ Nhôm 120uF 10V; Ma_Hang: MH004020; Chung_Loai: Dán; Kieu_Chan: *
footprint tu nhom 6.3 (d)
pins: 1, 2
text: +

## Tu Nhom 220uF 10V
designator C?, comment 220uF
Dán; So_Chan: 2; Ten_Linh_Kien: Tụ Nhôm 220uF 10V; Ma_Hang: MH004021; Don_Vi: Con; Chung_Loai: Dán; Kieu_Chan: *
footprint tu nhom 8 (e)
pins: 1, 2
text: +

## Tu Nhom 220uF 16V
designator C?, comment 220uF
Dán; Don_Vi: Con; So_Chan: 2; Ten_Linh_Kien: Tụ Nhôm 220uF 16V 6.3x7.7MM; Ma_Hang: MH002227; Chung_Loai: Dán; Kieu_Chan: *
footprint tu nhom 6.3 (d)
pins: 1, 2
text: +

## Tu Nhom 220uF 25V
designator C?, comment 220uF
Dán; Don_Vi: Con; So_Chan: 2; Ten_Linh_Kien: Tụ Nhôm 220uF 25V; Ma_Hang: MH002221; Chung_Loai: Dán; Kieu_Chan: *
footprint tu nhom 8 (f)
pins: 1, 2
text: +

## Tu Nhom 220uF 50V
designator C?, comment 220uF
Dán; Don_Vi: Con; So_Chan: 2; Ten_Linh_Kien: Tụ Nhôm 220uF 50V 10x10.2MM; Ma_Hang: MH002228; Chung_Loai: Dán; Kieu_Chan: *
footprint tu nhom 10 (g)
pins: 1, 2
text: +

## Tu Nhom 330uF 16V
designator C?, comment 330uF
Dán; Don_Vi: Con; So_Chan: 2; Ten_Linh_Kien: Tụ Nhôm 330uF 16V 8x10MM; Ma_Hang: MH002220; Chung_Loai: Dán; Kieu_Chan: *
footprint tu nhom 8 (f)
pins: 1, 2
text: +

## Tu Nhom 330uF 25V
designator C?, comment 330uF
Dán; Don_Vi: Con; So_Chan: 2; Ten_Linh_Kien: Tụ Nhôm 330uF 25V 8x10.2MM; Ma_Hang: MH002226; Chung_Loai: Dán; Kieu_Chan: *
footprint tu nhom 8 (e)
pins: 1, 2
text: +

## Tu Nhom 330uF 35V
designator C?, comment 330uF
Dán; Don_Vi: Con; So_Chan: 2; Ten_Linh_Kien: Tụ Nhôm 330uF 35V 10x10.5MM; Ma_Hang: MH004414; Chung_Loai: Dán; Kieu_Chan: *
footprint tu nhom 10 (g)
pins: 1, 2
text: +

## Tu Nhom 330uF 50V
designator C?, comment 330uF
Dán; Don_Vi: Con; So_Chan: 2; Ten_Linh_Kien: Tụ Nhôm 330uF 50V 10x10.2MM; Ma_Hang: MH002225; Chung_Loai: Dán; Kieu_Chan: *
footprint tu nhom 10 (g)
pins: 1, 2
text: +

## Tu Nhom 470uF 16V
designator C?, comment 470uF
Dán; Don_Vi: Con; So_Chan: 2; Ten_Linh_Kien: Tụ Nhôm 470uF 16V 8x10.4MM; Ma_Hang: MH001940; Chung_Loai: Dán; Kieu_Chan: *
footprint tu nhom 8 (f)
pins: 1, 2
text: +

## Tu Nhom 470uF 35V
designator C?, comment 470uF
Dán; Don_Vi: Con; So_Chan: 2; Ten_Linh_Kien: Tụ Nhôm 470uF 35V 10x10.5MM; Ma_Hang: MH004418; Chung_Loai: Dán; Kieu_Chan: *
footprint tu nhom 10 (G)
pins: 1, 2
text: +

## Tu Nhom 680uF 16V
designator C?, comment 680
Dán; Don_Vi: Con; So_Chan: 2; Ten_Linh_Kien: Tụ Nhôm 680uF 16V 10x10.5MM; Ma_Hang: MH007513; Chung_Loai: Dán; Kieu_Chan: *
footprint tu nhom 10 (G)
pins: 1, 2
text: +

## Tu Nhom 1000uF 10V
designator C?, comment 1000uF
Dán; So_Chan: 2; Don_Vi: Con; Ten_Linh_Kien: Tụ Nhôm 1000uF 10V; Ma_Hang: MH007515; Chung_Loai: Dán; Kieu_Chan: *
footprint tu nhom 10 (G)
pins: 1, 2
text: +

## Tu Nhom 1000uF 16V
designator C?, comment 1000uF
Dán; Don_Vi: Con; So_Chan: 2; Ten_Linh_Kien: Tụ Nhôm 1000uF 16V 10x10MM; Ma_Hang: MH004419; Chung_Loai: Dán; Kieu_Chan: *
footprint tu nhom 10 (G)
pins: 1, 2
text: +

## Tu tantalum 0.22uF 50V DIP5.08
designator C?, comment 0.22uF
Cắm; Don_Vi: Con; So_Chan: 2; Ten_Linh_Kien: Tụ tantalum 224-0.22uF 50V DIP5.08 sứ vàng; Ma_Hang: MH007473; Chung_Loai: Cắm; Kieu_Chan: *
footprint tu tantalum dip5.08
pins: 1, 2

## Tu tantalum 0.47uF 50V DIP5.08
designator C?, comment 0.47uF
Cắm; Don_Vi: Con; So_Chan: 2; Ten_Linh_Kien: Tụ tantalum 0.47uF 474 50V 5.08mm (sứ vàng); Ma_Hang: MH007469; Chung_Loai: Cắm; Kieu_Chan: *
footprint tu tantalum dip5.08
pins: 1, 2

## Tu tantalum 1nF 50V 20% DIP5.08
designator C?, comment 1nF
Cắm; Don_Vi: Con; So_Chan: 2; Ten_Linh_Kien: Tụ tantalum 102-1nF 50V 20% DIP5.08 (sứ vàng)(10PCS); Ma_Hang: MH003954; Chung_Loai: Cắm; Kieu_Chan: *
footprint tu tantalum dip5.08
pins: 1, 2

## Tu tantalum 1uF 25V SMD3216
designator C?, comment 1uF
Dán; Don_Vi: Con; So_Chan: 2; Ten_Linh_Kien: Tụ tantalum 105E-1uF 25V SMD3216; Ma_Hang: MH007472; Chung_Loai: Dán; Kieu_Chan: *
footprint tu tantalum smd3216
pins: 1, 2

## Tu tantalum 1uF 35V SMD3216
designator C?, comment 1uF
Dán; Don_Vi: Con; So_Chan: 2; Ten_Linh_Kien: Tụ tantalum 105V-1uF 35V SMD3216; Ma_Hang: MH007471; Chung_Loai: Dán; Kieu_Chan: *
footprint tu tantalum smd3216
pins: 1, 2

## Tu tantalum 1uF 50V SMD6032
designator C?, comment 1uF
Dán; Don_Vi: Con; So_Chan: 2; Ten_Linh_Kien: Tụ tantalum 105T-1uF 50V SMD6032; Ma_Hang: MH008400; Chung_Loai: Dán; Kieu_Chan: *
footprint tu tantalum smd6032
pins: 1, 2

## Tu tantalum 1uF DIP5.08
designator C?, comment 1uF
Cắm; Don_Vi: Con; So_Chan: 2; Ten_Linh_Kien: Tụ tantalum 105-1uF DIP5.08 sứ vàng; Ma_Hang: MH007470; Chung_Loai: Cắm; Kieu_Chan: *
footprint tu tantalum dip5.08
pins: 1, 2

## Tu tantalum 2.2nF 50V 20% DIP5.08 (sứ vàng-10PCS)
designator C?, comment 2.2nF
Cắm; Don_Vi: Con; So_Chan: 2; Ten_Linh_Kien: Tụ tantalum 222-2.2nF 50V 20% DIP5.08 (sứ vàng-10PCS); Ma_Hang: MH003962; Chung_Loai: Cắm; Kieu_Chan: *
footprint tu tantalum dip5.08
pins: 1, 2

## Tu tantalum 3.3uF SMD3216
designator C?, comment 3.3uF
Dán; Don_Vi: Con; So_Chan: 2; Ten_Linh_Kien: Tụ tantalum 335-3.3uF SMD3216 (E335); Ma_Hang: MH008673; Chung_Loai: Dán; Kieu_Chan: *
footprint tu tantalum smd3216
pins: 1, 2

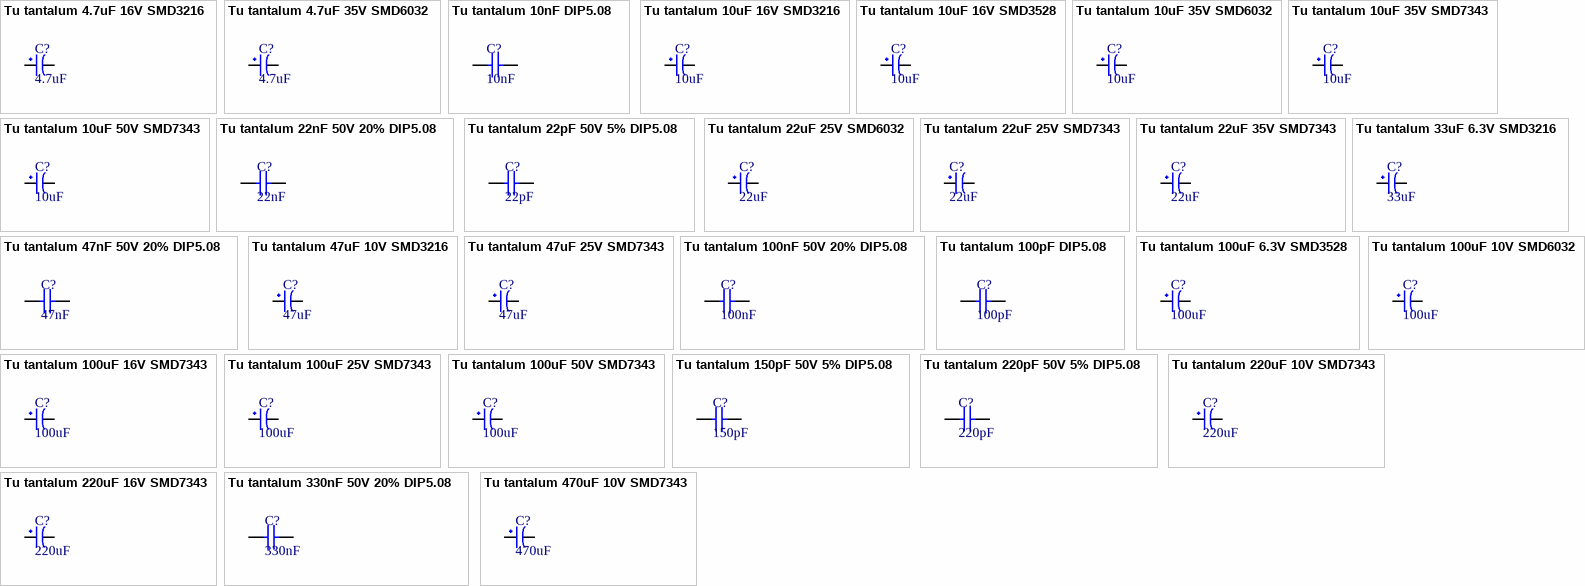
[diagram p5: symbols Tu tantalum 4.7uF 16V SMD3216 to Tu tantalum 470uF 10V SMD7343]

## Tu tantalum 4.7uF 16V SMD3216
designator C?, comment 4.7uF
Dán; Don_Vi: Con; So_Chan: 2; Ten_Linh_Kien: Tụ tantalum 475C-4.7uF 16V SMD3216; Ma_Hang: MH008686; Chung_Loai: Dán; Kieu_Chan: *
footprint tu tantalum smd3216
pins: 1, 2

## Tu tantalum 4.7uF 35V SMD6032
designator C?, comment 4.7uF
Dán; Don_Vi: Con; So_Chan: 2; Ten_Linh_Kien: Tụ tantalum 475V-4.7uF 35V SMD6032; Ma_Hang: MH008687; Chung_Loai: Dán; Kieu_Chan: *
footprint tu tantalum smd6032
pins: 1, 2

## Tu tantalum 10nF DIP5.08
designator C?, comment 10nF
Cắm; Don_Vi: Con; So_Chan: 2; Ten_Linh_Kien: Tụ tantalum 103-10nF DIP5.08 (sứ vàng)(10PCS); Ma_Hang: MH002105; Chung_Loai: Cắm; Kieu_Chan: *
footprint tu tantalum dip5.08
pins: 1, 2

## Tu tantalum 10uF 16V SMD3216
designator C?, comment 10uF
Dán; Don_Vi: Con; So_Chan: 2; Ten_Linh_Kien: Tụ tantalum 106C-10uF 16V SMD3216; Ma_Hang: MH001954; Chung_Loai: Dán; Kieu_Chan: *
footprint tu tantalum smd3216
pins: 1, 2

## Tu tantalum 10uF 16V SMD3528
designator C?, comment 10uF
Dán; Don_Vi: Con; So_Chan: 2; Ten_Linh_Kien: Tụ tantalum 106C-10uF 16V SMD3528; Ma_Hang: MH007474; Chung_Loai: Dán; Kieu_Chan: *
footprint tu tantalum smd3528
pins: 1, 2

## Tu tantalum 10uF 35V SMD6032
designator C?, comment 10uF
Dán; Don_Vi: Con; So_Chan: 2; Ten_Linh_Kien: Tụ tantalum 106V-10uF 35V SMD6032; Ma_Hang: MH007593; Chung_Loai: Dán; Kieu_Chan: *
footprint tu tantalum smd6032
pins: 1, 2

## Tu tantalum 10uF 35V SMD7343
designator C?, comment 10uF
Dán; Don_Vi: Con; So_Chan: 2; Ten_Linh_Kien: Tụ tantalum 106V-10uF 35V SMD7343; Ma_Hang: MH001955; Chung_Loai: Dán; Kieu_Chan: *
footprint tu tantalum smd7343
pins: 1, 2

## Tu tantalum 10uF 50V SMD7343
designator C?, comment 10uF
Dán; Don_Vi: Con; So_Chan: 2; Ten_Linh_Kien: Tụ tantalum 106T-10uF 50V SMD7343; Ma_Hang: MH006532; Chung_Loai: Dán; Kieu_Chan: *
footprint tu tantalum smd7343
pins: 1, 2

## Tu tantalum 22nF 50V 20% DIP5.08
designator C?, comment 22nF
Cắm; Don_Vi: Con; So_Chan: 2; Ten_Linh_Kien: Tụ tantalum 223-22nF 50V 20% DIP5.08 sứ vàng; Ma_Hang: MH007977; Chung_Loai: Cắm; Kieu_Chan: *
footprint tu tantalum dip5.08
pins: 1, 2

## Tu tantalum 22pF 50V 5% DIP5.08
designator C?, comment 22pF
Cắm; Don_Vi: Con; So_Chan: 2; Ten_Linh_Kien: Tụ tantalum 220-22P 50V 5% DIP5.08 (sứ vàng-10PCS); Ma_Hang: MH004710; Chung_Loai: Cắm; Kieu_Chan: *
footprint tu tantalum dip5.08
pins: 1, 2

## Tu tantalum 22uF 25V SMD6032
designator C?, comment 22uF
Dán; Don_Vi: Con; So_Chan: 2; Ten_Linh_Kien: Tụ tantalum 226E-22uF 25V SMD6032; Ma_Hang: MH002651; Chung_Loai: Dán; Kieu_Chan: *
footprint tu tantalum smd6032
pins: 1, 2

## Tu tantalum 22uF 25V SMD7343
designator C?, comment 22uF
Dán; Don_Vi: Con; So_Chan: 2; Ten_Linh_Kien: Tụ tantalum 226E-22uF 25V SMD7343; Ma_Hang: MH007975; Chung_Loai: Dán; Kieu_Chan: *
footprint tu tantalum smd7343
pins: 1, 2

## Tu tantalum 22uF 35V SMD7343
designator C?, comment 22uF
Dán; Don_Vi: Con; So_Chan: 2; Ten_Linh_Kien: Tụ tantalum 226V-22uF 35V SMD7343; Ma_Hang: MH007976; Chung_Loai: Dán; Kieu_Chan: *
footprint tu tantalum smd7343
pins: 1, 2

## Tu tantalum 33uF 6.3V SMD3216
designator C?, comment 33uF
Dán; Don_Vi: Con; So_Chan: 2; Ten_Linh_Kien: Tụ tantalum J336-33uF 6.3V SMD3216; Ma_Hang: MH008674; Chung_Loai: Dán; Kieu_Chan: *
footprint tu tantalum smd3216
pins: 1, 2

## Tu tantalum 47nF 50V 20% DIP5.08
designator C?, comment 47nF
Cắm; Don_Vi: Con; So_Chan: 2; Ten_Linh_Kien: Tụ tantalum 473-47nF 50V 20% DIP5.08 (sứ vàng-10PCS); Ma_Hang: MH003965; Chung_Loai: Cắm; Kieu_Chan: *
footprint tu tantalum dip5.08
pins: 1, 2

## Tu tantalum 47uF 10V SMD3216
designator C?, comment 47uF
Dán; Don_Vi: Con; So_Chan: 2; Ten_Linh_Kien: Tụ tantalum 476A-47uF 10V SMD3216; Ma_Hang: MH007497; Chung_Loai: Dán; Kieu_Chan: *
footprint tu tantalum smd3216
pins: 1, 2

## Tu tantalum 47uF 25V SMD7343
designator C?, comment 47uF
Dán; Don_Vi: Con; Ten_Linh_Kien: Tụ tantalum 476E-47uF 25V SMD7343; Ma_Hang: MH002162; So_Chan: 2; Chung_Loai: Dán; Kieu_Chan: *
footprint tu tantalum smd7343
pins: 1, 2

## Tu tantalum 100nF 50V 20% DIP5.08
designator C?, comment 100nF
Cắm; Don_Vi: Con; So_Chan: 2; Ten_Linh_Kien: Tụ tantalum 104-100nF 50V 20% DIP5.08 (sứ vàng)(10PCS); Ma_Hang: MH003955; Chung_Loai: Cắm; Kieu_Chan: *
footprint tu tantalum dip5.08
pins: 1, 2

## Tu tantalum 100pF DIP5.08
designator C?, comment 100pF
Cắm; Don_Vi: Con; So_Chan: 2; Ten_Linh_Kien: Tụ tantalum 101-100pF DIP5.08 (sứ vàng); Ma_Hang: MH006964; Chung_Loai: Cắm; Kieu_Chan: *
footprint tu tantalum dip5.08
pins: 1, 2

## Tu tantalum 100uF 6.3V SMD3528
designator C?, comment 100uF
Dán; Don_Vi: Con; So_Chan: 2; Ten_Linh_Kien: Tụ tantalum 107J-100uF 6.3V SMD3528; Ma_Hang: MH007595; Chung_Loai: Dán; Kieu_Chan: *
footprint tu tantalum smd3528
pins: 1, 2

## Tu tantalum 100uF 10V SMD6032
designator C?, comment 100uF
Dán; Don_Vi: Con; So_Chan: 2; Ten_Linh_Kien: Tụ tantalum 107A-100uF 10V SMD6032; Ma_Hang: MH007594; Chung_Loai: Dán; Kieu_Chan: *
footprint tu tantalum smd6032
pins: 1, 2

## Tu tantalum 100uF 16V SMD7343
designator C?, comment 100uF
Dán; Don_Vi: Con; So_Chan: 2; Ten_Linh_Kien: Tụ tantalum 107C-100uF 16V SMD7343; Ma_Hang: MH002346; Chung_Loai: Dán; Kieu_Chan: *
footprint tu tantalum smd7343
pins: 1, 2

## Tu tantalum 100uF 25V SMD7343
designator C?, comment 100uF
Dán; Don_Vi: Con; So_Chan: 2; Ten_Linh_Kien: Tụ tantalum 107E-100uF 25V SMD7343; Ma_Hang: MH002347; Chung_Loai: Dán; Kieu_Chan: *
footprint tu tantalum smd7343
pins: 1, 2

## Tu tantalum 100uF 50V SMD7343
designator C?, comment 100uF
Dán; Don_Vi: Con; So_Chan: 2; Ten_Linh_Kien: Tụ tantalum 107T-100uF 50V SMD7343; Ma_Hang: MH008401; Chung_Loai: Dán; Kieu_Chan: *
footprint tu tantalum smd7343
pins: 1, 2

## Tu tantalum 150pF 50V 5% DIP5.08
designator C?, comment 150pF
Cắm; Don_Vi: Con; So_Chan: 2; Ten_Linh_Kien: Tụ tantalum 151-150P 50V 5% DIP5.08 (sứ vàng) (10PCS); Ma_Hang: MH003964; Chung_Loai: Cắm; Kieu_Chan: *
footprint tu tantalum dip5.08
pins: 1, 2

## Tu tantalum 220pF 50V 5% DIP5.08
designator C?, comment 220pF
Cắm; Don_Vi: Con; So_Chan: 2; Ten_Linh_Kien: Tụ tantalum 221-220P 50V 5% DIP5.08 (sứ vàng-10PCS); Ma_Hang: MH008696; Chung_Loai: Cắm; Kieu_Chan: *
footprint tu tantalum dip5.08
pins: 1, 2

## Tu tantalum 220uF 10V SMD7343
designator C?, comment 220uF
Dán; Don_Vi: Con; So_Chan: 2; Ten_Linh_Kien: Tụ tantalum 227A-220uF 10V SMD 7343; Ma_Hang: MH007496; Chung_Loai: Dán; Kieu_Chan: *
footprint tu tantalum smd7343
pins: 1, 2

## Tu tantalum 220uF 16V SMD7343
designator C?, comment 220uF
Dán; Don_Vi: Con; So_Chan: 2; Ten_Linh_Kien: Tụ tantalum 227C-220uF 16V SMD7343; Ma_Hang: MH002345; Chung_Loai: Dán; Kieu_Chan: *
footprint tu tantalum smd7343
pins: 1, 2

## Tu tantalum 330nF 50V 20% DIP5.08
designator C?, comment 330nF
Cắm; Don_Vi: Con; So_Chan: 2; Ten_Linh_Kien: Tụ tantalum 334-330nF 50V 20% DIP5.08 (sứ vàng) (10PCS); Ma_Hang: MH003963; Chung_Loai: Cắm; Kieu_Chan: *
footprint Tu tantalum dip5.08
pins: 1, 2

## Tu tantalum 470uF 10V SMD7343
designator C?, comment 470uF
Dán; Don_Vi: Con; So_Chan: 2; Ten_Linh_Kien: Tụ tantalum 477A-470uF 10V SMD7343; Ma_Hang: MH001956; Chung_Loai: Dán; Kieu_Chan: *
footprint tu tantalum smd7343
pins: 1, 2